# Altium integrated library Altium_WCAP-CSGP (rev22a).IntLib: 953 symbols (part 1 of 17)
Pins are listed as number, name and electrical type; pins without a type are passive.

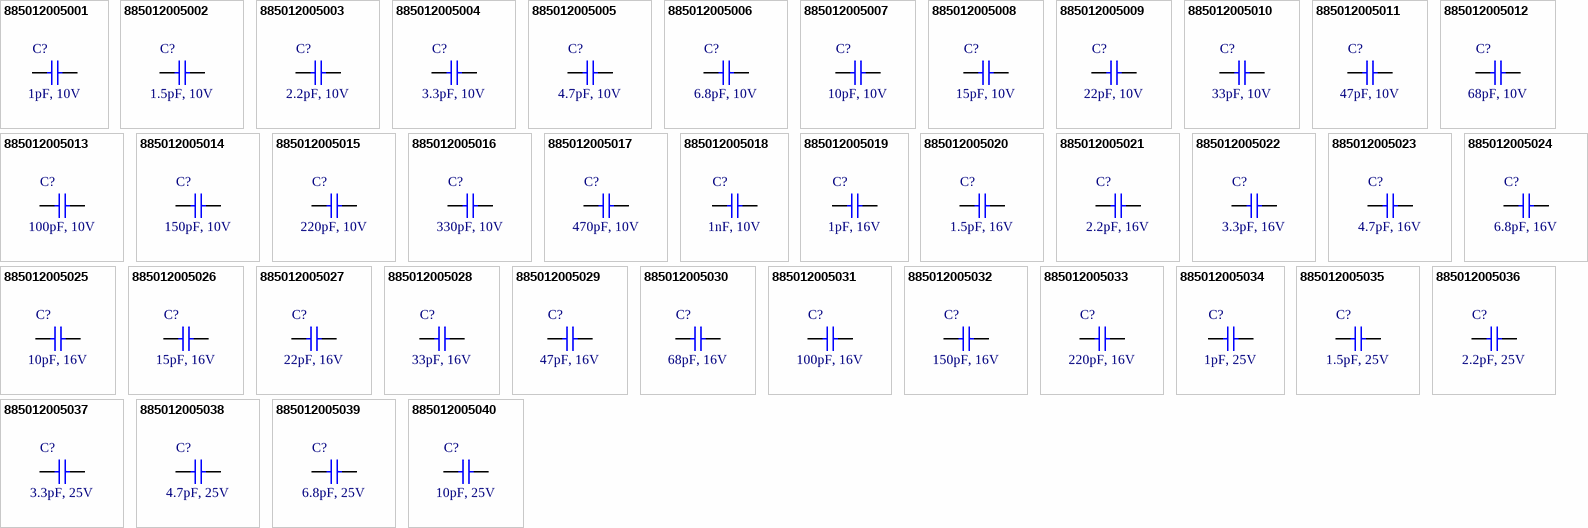
[diagram p0: symbols 885012005001 to 885012005040]

## 885012005001
designator C?, comment 1pF, 10V
WCAP-CSGP Multilayer Ceramic Chip Capacitor, General Purpose, size 0402, NP0, 1pF, 10V; Manufacturer: Wurth Elektronik; Manufacturer Part Number: 885012005001; Capacitance Tolerance: +/-0.5pF; Isolation Resistance: 10GOhm; Q-Factor: 420; Technical Reference: NP004021R0D010DFCT10000; Capacitance: 1pF; Ceramic Type: NP0; ComponentLink1Description: Manufacturer Link; ComponentLink1URL: http://www.we-online.de; ComponentLink2Description: Datasheet; ComponentLink2URL: https://www.we-online.com/catalog/datasheet/885012005001.pdf; Height: 0.5mm; Length: 1mm; Mounting Technology: SMT; Operating Temperature max.: 125C; Operating Temperature min.: -55C; Packaging: Tape and Reel; Rated Voltage: 10V; Size: 0402; Width: 0.5mm
footprint WCAP-CSGP_0402_L1W0.5H0.5
pins: 1, 2

## 885012005002
designator C?, comment 1.5pF, 10V
WCAP-CSGP Multilayer Ceramic Chip Capacitor, General Purpose, size 0402, NP0, 1.5pF, 10V; Manufacturer: Wurth Elektronik; Manufacturer Part Number: 885012005002; Capacitance Tolerance: +/-0.5pF; Isolation Resistance: 10GOhm; Q-Factor: 430; Technical Reference: NP004021R5D010DFCT10000; Capacitance: 1.5pF; Ceramic Type: NP0; ComponentLink1Description: Manufacturer Link; ComponentLink1URL: http://www.we-online.de; ComponentLink2Description: Datasheet; ComponentLink2URL: https://www.we-online.com/catalog/datasheet/885012005002.pdf; Height: 0.5mm; Length: 1mm; Mounting Technology: SMT; Operating Temperature max.: 125C; Operating Temperature min.: -55C; Packaging: Tape and Reel; Rated Voltage: 10V; Size: 0402; Width: 0.5mm
footprint WCAP-CSGP_0402_L1W0.5H0.5
pins: 1, 2

## 885012005003
designator C?, comment 2.2pF, 10V
WCAP-CSGP Multilayer Ceramic Chip Capacitor, General Purpose, size 0402, NP0, 2.2pF, 10V; Manufacturer: Wurth Elektronik; Manufacturer Part Number: 885012005003; Capacitance Tolerance: +/-0.5pF; Isolation Resistance: 10GOhm; Q-Factor: 444; Technical Reference: NP004022R2D010DFCT10000; Capacitance: 2.2pF; Ceramic Type: NP0; ComponentLink1Description: Manufacturer Link; ComponentLink1URL: http://www.we-online.de; ComponentLink2Description: Datasheet; ComponentLink2URL: https://www.we-online.com/catalog/datasheet/885012005003.pdf; Height: 0.5mm; Length: 1mm; Mounting Technology: SMT; Operating Temperature max.: 125C; Operating Temperature min.: -55C; Packaging: Tape and Reel; Rated Voltage: 10V; Size: 0402; Width: 0.5mm
footprint WCAP-CSGP_0402_L1W0.5H0.5
pins: 1, 2

## 885012005004
designator C?, comment 3.3pF, 10V
WCAP-CSGP Multilayer Ceramic Chip Capacitor, General Purpose, size 0402, NP0, 3.3pF, 10V; Manufacturer: Wurth Elektronik; Manufacturer Part Number: 885012005004; Capacitance Tolerance: +/-0.5pF; Isolation Resistance: 10GOhm; Q-Factor: 466; Technical Reference: NP004023R3D010DFCT10000; Capacitance: 3.3pF; Ceramic Type: NP0; ComponentLink1Description: Manufacturer Link; ComponentLink1URL: http://www.we-online.de; ComponentLink2Description: Datasheet; ComponentLink2URL: https://www.we-online.com/catalog/datasheet/885012005004.pdf; Height: 0.5mm; Length: 1mm; Mounting Technology: SMT; Operating Temperature max.: 125C; Operating Temperature min.: -55C; Packaging: Tape and Reel; Rated Voltage: 10V; Size: 0402; Width: 0.5mm
footprint WCAP-CSGP_0402_L1W0.5H0.5
pins: 1, 2

## 885012005005
designator C?, comment 4.7pF, 10V
WCAP-CSGP Multilayer Ceramic Chip Capacitor, General Purpose, size 0402, NP0, 4.7pF, 10V; Manufacturer: Wurth Elektronik; Manufacturer Part Number: 885012005005; Capacitance Tolerance: +/-0.5pF; Isolation Resistance: 10GOhm; Q-Factor: 494; Technical Reference: NP004024R7D010DFCT10000; Capacitance: 4.7pF; Ceramic Type: NP0; ComponentLink1Description: Manufacturer Link; ComponentLink1URL: http://www.we-online.de; ComponentLink2Description: Datasheet; ComponentLink2URL: https://www.we-online.com/catalog/datasheet/885012005005.pdf; Height: 0.5mm; Length: 1mm; Mounting Technology: SMT; Operating Temperature max.: 125C; Operating Temperature min.: -55C; Packaging: Tape and Reel; Rated Voltage: 10V; Size: 0402; Width: 0.5mm
footprint WCAP-CSGP_0402_L1W0.5H0.5
pins: 1, 2

## 885012005006
designator C?, comment 6.8pF, 10V
WCAP-CSGP Multilayer Ceramic Chip Capacitor, General Purpose, size 0402, NP0, 6.8pF, 10V; Manufacturer: Wurth Elektronik; Manufacturer Part Number: 885012005006; Capacitance Tolerance: +/-0.5pF; Isolation Resistance: 10GOhm; Q-Factor: 536; Technical Reference: NP004026R8D010DFCT10000; Capacitance: 6.8pF; Ceramic Type: NP0; ComponentLink1Description: Manufacturer Link; ComponentLink1URL: http://www.we-online.de; ComponentLink2Description: Datasheet; ComponentLink2URL: https://www.we-online.com/catalog/datasheet/885012005006.pdf; Height: 0.5mm; Length: 1mm; Mounting Technology: SMT; Operating Temperature max.: 125C; Operating Temperature min.: -55C; Packaging: Tape and Reel; Rated Voltage: 10V; Size: 0402; Width: 0.5mm
footprint WCAP-CSGP_0402_L1W0.5H0.5
pins: 1, 2

## 885012005007
designator C?, comment 10pF, 10V
WCAP-CSGP Multilayer Ceramic Chip Capacitor, General Purpose, size 0402, NP0, 10pF, 10V; Manufacturer: Wurth Elektronik; Manufacturer Part Number: 885012005007; Capacitance Tolerance: +/-5%; Isolation Resistance: 10GOhm; Q-Factor: 600; Technical Reference: NP00402100J010DFCT10000; Capacitance: 10pF; Ceramic Type: NP0; ComponentLink1Description: Manufacturer Link; ComponentLink1URL: http://www.we-online.de; ComponentLink2Description: Datasheet; ComponentLink2URL: https://www.we-online.com/catalog/datasheet/885012005007.pdf; Height: 0.5mm; Length: 1mm; Mounting Technology: SMT; Operating Temperature max.: 125C; Operating Temperature min.: -55C; Packaging: Tape and Reel; Rated Voltage: 10V; Size: 0402; Width: 0.5mm
footprint WCAP-CSGP_0402_L1W0.5H0.5
pins: 1, 2

## 885012005008
designator C?, comment 15pF, 10V
WCAP-CSGP Multilayer Ceramic Chip Capacitor, General Purpose, size 0402, NP0, 15pF, 10V; Manufacturer: Wurth Elektronik; Manufacturer Part Number: 885012005008; Capacitance Tolerance: +/-5%; Isolation Resistance: 10GOhm; Q-Factor: 700; Technical Reference: NP00402150J010DFCT10000; Capacitance: 15pF; Ceramic Type: NP0; ComponentLink1Description: Manufacturer Link; ComponentLink1URL: http://www.we-online.de; ComponentLink2Description: Datasheet; ComponentLink2URL: https://www.we-online.com/catalog/datasheet/885012005008.pdf; Height: 0.5mm; Length: 1mm; Mounting Technology: SMT; Operating Temperature max.: 125C; Operating Temperature min.: -55C; Packaging: Tape and Reel; Rated Voltage: 10V; Size: 0402; Width: 0.5mm
footprint WCAP-CSGP_0402_L1W0.5H0.5
pins: 1, 2

## 885012005009
designator C?, comment 22pF, 10V
WCAP-CSGP Multilayer Ceramic Chip Capacitor, General Purpose, size 0402, NP0, 22pF, 10V; Manufacturer: Wurth Elektronik; Manufacturer Part Number: 885012005009; Capacitance Tolerance: +/-5%; Isolation Resistance: 10GOhm; Q-Factor: 840; Technical Reference: NP00402220J010DFCT10000; Capacitance: 22pF; Ceramic Type: NP0; ComponentLink1Description: Manufacturer Link; ComponentLink1URL: http://www.we-online.de; ComponentLink2Description: Datasheet; ComponentLink2URL: https://www.we-online.com/catalog/datasheet/885012005009.pdf; Height: 0.5mm; Length: 1mm; Mounting Technology: SMT; Operating Temperature max.: 125C; Operating Temperature min.: -55C; Packaging: Tape and Reel; Rated Voltage: 10V; Size: 0402; Width: 0.5mm
footprint WCAP-CSGP_0402_L1W0.5H0.5
pins: 1, 2

## 885012005010
designator C?, comment 33pF, 10V
WCAP-CSGP Multilayer Ceramic Chip Capacitor, General Purpose, size 0402, NP0, 33pF, 10V; Manufacturer: Wurth Elektronik; Manufacturer Part Number: 885012005010; Capacitance Tolerance: +/-5%; Isolation Resistance: 10GOhm; Q-Factor: 1000; Technical Reference: NP00402330J010DFCT10000; Capacitance: 33pF; Ceramic Type: NP0; ComponentLink1Description: Manufacturer Link; ComponentLink1URL: http://www.we-online.de; ComponentLink2Description: Datasheet; ComponentLink2URL: https://www.we-online.com/catalog/datasheet/885012005010.pdf; Height: 0.5mm; Length: 1mm; Mounting Technology: SMT; Operating Temperature max.: 125C; Operating Temperature min.: -55C; Packaging: Tape and Reel; Rated Voltage: 10V; Size: 0402; Width: 0.5mm
footprint WCAP-CSGP_0402_L1W0.5H0.5
pins: 1, 2

## 885012005011
designator C?, comment 47pF, 10V
WCAP-CSGP Multilayer Ceramic Chip Capacitor, General Purpose, size 0402, NP0, 47pF, 10V; Manufacturer: Wurth Elektronik; Manufacturer Part Number: 885012005011; Capacitance Tolerance: +/-5%; Isolation Resistance: 10GOhm; Q-Factor: 1000; Technical Reference: NP00402470J010DFCT10000; Capacitance: 47pF; Ceramic Type: NP0; ComponentLink1Description: Manufacturer Link; ComponentLink1URL: http://www.we-online.de; ComponentLink2Description: Datasheet; ComponentLink2URL: https://www.we-online.com/catalog/datasheet/885012005011.pdf; Height: 0.5mm; Length: 1mm; Mounting Technology: SMT; Operating Temperature max.: 125C; Operating Temperature min.: -55C; Packaging: Tape and Reel; Rated Voltage: 10V; Size: 0402; Width: 0.5mm
footprint WCAP-CSGP_0402_L1W0.5H0.5
pins: 1, 2

## 885012005012
designator C?, comment 68pF, 10V
WCAP-CSGP Multilayer Ceramic Chip Capacitor, General Purpose, size 0402, NP0, 68pF, 10V; Manufacturer: Wurth Elektronik; Manufacturer Part Number: 885012005012; Capacitance Tolerance: +/-5%; Isolation Resistance: 10GOhm; Q-Factor: 1000; Technical Reference: NP00402680J010DFCT10000; Capacitance: 68pF; Ceramic Type: NP0; ComponentLink1Description: Manufacturer Link; ComponentLink1URL: http://www.we-online.de; ComponentLink2Description: Datasheet; ComponentLink2URL: https://www.we-online.com/catalog/datasheet/885012005012.pdf; Height: 0.5mm; Length: 1mm; Mounting Technology: SMT; Operating Temperature max.: 125C; Operating Temperature min.: -55C; Packaging: Tape and Reel; Rated Voltage: 10V; Size: 0402; Width: 0.5mm
footprint WCAP-CSGP_0402_L1W0.5H0.5
pins: 1, 2

## 885012005013
designator C?, comment 100pF, 10V
WCAP-CSGP Multilayer Ceramic Chip Capacitor, General Purpose, size 0402, NP0, 100pF, 10V; Manufacturer: Wurth Elektronik; Manufacturer Part Number: 885012005013; Capacitance Tolerance: +/-5%; Isolation Resistance: 10GOhm; Q-Factor: 1000; Technical Reference: NP00402101J010DFCT10000; Capacitance: 100pF; Ceramic Type: NP0; ComponentLink1Description: Manufacturer Link; ComponentLink1URL: http://www.we-online.de; ComponentLink2Description: Datasheet; ComponentLink2URL: https://www.we-online.com/catalog/datasheet/885012005013.pdf; Height: 0.5mm; Length: 1mm; Mounting Technology: SMT; Operating Temperature max.: 125C; Operating Temperature min.: -55C; Packaging: Tape and Reel; Rated Voltage: 10V; Size: 0402; Width: 0.5mm
footprint WCAP-CSGP_0402_L1W0.5H0.5
pins: 1, 2

## 885012005014
designator C?, comment 150pF, 10V
WCAP-CSGP Multilayer Ceramic Chip Capacitor, General Purpose, size 0402, NP0, 150pF, 10V; Manufacturer: Wurth Elektronik; Manufacturer Part Number: 885012005014; Capacitance Tolerance: +/-5%; Isolation Resistance: 10GOhm; Q-Factor: 1000; Technical Reference: NP00402151J010DFCT10000; Capacitance: 150pF; Ceramic Type: NP0; ComponentLink1Description: Manufacturer Link; ComponentLink1URL: http://www.we-online.de; ComponentLink2Description: Datasheet; ComponentLink2URL: https://www.we-online.com/catalog/datasheet/885012005014.pdf; Height: 0.5mm; Length: 1mm; Mounting Technology: SMT; Operating Temperature max.: 125C; Operating Temperature min.: -55C; Packaging: Tape and Reel; Rated Voltage: 10V; Size: 0402; Width: 0.5mm
footprint WCAP-CSGP_0402_L1W0.5H0.5
pins: 1, 2

## 885012005015
designator C?, comment 220pF, 10V
WCAP-CSGP Multilayer Ceramic Chip Capacitor, General Purpose, size 0402, NP0, 220pF, 10V; Manufacturer: Wurth Elektronik; Manufacturer Part Number: 885012005015; Capacitance Tolerance: +/-5%; Isolation Resistance: 10GOhm; Q-Factor: 1000; Technical Reference: NP00402221J010DFCT10000; Capacitance: 220pF; Ceramic Type: NP0; ComponentLink1Description: Manufacturer Link; ComponentLink1URL: http://www.we-online.de; ComponentLink2Description: Datasheet; ComponentLink2URL: https://www.we-online.com/catalog/datasheet/885012005015.pdf; Height: 0.5mm; Length: 1mm; Mounting Technology: SMT; Operating Temperature max.: 125C; Operating Temperature min.: -55C; Packaging: Tape and Reel; Rated Voltage: 10V; Size: 0402; Width: 0.5mm
footprint WCAP-CSGP_0402_L1W0.5H0.5
pins: 1, 2

## 885012005016
designator C?, comment 330pF, 10V
WCAP-CSGP Multilayer Ceramic Chip Capacitor, General Purpose, size 0402, NP0, 330pF, 10V; Manufacturer: Wurth Elektronik; Manufacturer Part Number: 885012005016; Capacitance Tolerance: +/-5%; Isolation Resistance: 10GOhm; Q-Factor: 1000; Technical Reference: NP00402331J010DFCT10000; Capacitance: 330pF; Ceramic Type: NP0; ComponentLink1Description: Manufacturer Link; ComponentLink1URL: http://www.we-online.de; ComponentLink2Description: Datasheet; ComponentLink2URL: https://www.we-online.com/catalog/datasheet/885012005016.pdf; Height: 0.5mm; Length: 1mm; Mounting Technology: SMT; Operating Temperature max.: 125C; Operating Temperature min.: -55C; Packaging: Tape and Reel; Rated Voltage: 10V; Size: 0402; Width: 0.5mm
footprint WCAP-CSGP_0402_L1W0.5H0.5
pins: 1, 2

## 885012005017
designator C?, comment 470pF, 10V
WCAP-CSGP Multilayer Ceramic Chip Capacitor, General Purpose, size 0402, NP0, 470pF, 10V; Manufacturer: Wurth Elektronik; Manufacturer Part Number: 885012005017; Capacitance Tolerance: +/-5%; Isolation Resistance: 10GOhm; Q-Factor: 1000; Technical Reference: NP00402471J010DFCT10000; Capacitance: 470pF; Ceramic Type: NP0; ComponentLink1Description: Manufacturer Link; ComponentLink1URL: http://www.we-online.de; ComponentLink2Description: Datasheet; ComponentLink2URL: https://www.we-online.com/catalog/datasheet/885012005017.pdf; Height: 0.5mm; Length: 1mm; Mounting Technology: SMT; Operating Temperature max.: 125C; Operating Temperature min.: -55C; Packaging: Tape and Reel; Rated Voltage: 10V; Size: 0402; Width: 0.5mm
footprint WCAP-CSGP_0402_L1W0.5H0.5
pins: 1, 2

## 885012005018
designator C?, comment 1nF, 10V
WCAP-CSGP Multilayer Ceramic Chip Capacitor, General Purpose, size 0402, NP0, 1nF, 10V; Manufacturer: Wurth Elektronik; Manufacturer Part Number: 885012005018; Capacitance Tolerance: +/-5%; Isolation Resistance: 10GOhm; Q-Factor: 1000; Technical Reference: NP00402102J010DFCT10000; Capacitance: 1nF; Ceramic Type: NP0; ComponentLink1Description: Manufacturer Link; ComponentLink1URL: http://www.we-online.de; ComponentLink2Description: Datasheet; ComponentLink2URL: https://www.we-online.com/catalog/datasheet/885012005018.pdf; Height: 0.5mm; Length: 1mm; Mounting Technology: SMT; Operating Temperature max.: 125C; Operating Temperature min.: -55C; Packaging: Tape and Reel; Rated Voltage: 10V; Size: 0402; Width: 0.5mm
footprint WCAP-CSGP_0402_L1W0.5H0.5
pins: 1, 2

## 885012005019
designator C?, comment 1pF, 16V
WCAP-CSGP Multilayer Ceramic Chip Capacitor, General Purpose, size 0402, NP0, 1pF, 16V; Manufacturer: Wurth Elektronik; Manufacturer Part Number: 885012005019; Capacitance Tolerance: +/-0.5pF; Isolation Resistance: 10GOhm; Q-Factor: 420; Technical Reference: NP004021R0D016DFCT10000; Capacitance: 1pF; Ceramic Type: NP0; ComponentLink1Description: Manufacturer Link; ComponentLink1URL: http://www.we-online.de; ComponentLink2Description: Datasheet; ComponentLink2URL: https://www.we-online.com/catalog/datasheet/885012005019.pdf; Height: 0.5mm; Length: 1mm; Mounting Technology: SMT; Operating Temperature max.: 125C; Operating Temperature min.: -55C; Packaging: Tape and Reel; Rated Voltage: 16V; Size: 0402; Width: 0.5mm
footprint WCAP-CSGP_0402_L1W0.5H0.5
pins: 1, 2

## 885012005020
designator C?, comment 1.5pF, 16V
WCAP-CSGP Multilayer Ceramic Chip Capacitor, General Purpose, size 0402, NP0, 1.5pF, 16V; Manufacturer: Wurth Elektronik; Manufacturer Part Number: 885012005020; Capacitance Tolerance: +/-0.5pF; Isolation Resistance: 10GOhm; Q-Factor: 430; Technical Reference: NP004021R5D016DFCT10000; Capacitance: 1.5pF; Ceramic Type: NP0; ComponentLink1Description: Manufacturer Link; ComponentLink1URL: http://www.we-online.de; ComponentLink2Description: Datasheet; ComponentLink2URL: https://www.we-online.com/catalog/datasheet/885012005020.pdf; Height: 0.5mm; Length: 1mm; Mounting Technology: SMT; Operating Temperature max.: 125C; Operating Temperature min.: -55C; Packaging: Tape and Reel; Rated Voltage: 16V; Size: 0402; Width: 0.5mm
footprint WCAP-CSGP_0402_L1W0.5H0.5
pins: 1, 2

## 885012005021
designator C?, comment 2.2pF, 16V
WCAP-CSGP Multilayer Ceramic Chip Capacitor, General Purpose, size 0402, NP0, 2.2pF, 16V; Manufacturer: Wurth Elektronik; Manufacturer Part Number: 885012005021; Capacitance Tolerance: +/-0.5pF; Isolation Resistance: 10GOhm; Q-Factor: 444; Technical Reference: NP004022R2D016DFCT10000; Capacitance: 2.2pF; Ceramic Type: NP0; ComponentLink1Description: Manufacturer Link; ComponentLink1URL: http://www.we-online.de; ComponentLink2Description: Datasheet; ComponentLink2URL: https://www.we-online.com/catalog/datasheet/885012005021.pdf; Height: 0.5mm; Length: 1mm; Mounting Technology: SMT; Operating Temperature max.: 125C; Operating Temperature min.: -55C; Packaging: Tape and Reel; Rated Voltage: 16V; Size: 0402; Width: 0.5mm
footprint WCAP-CSGP_0402_L1W0.5H0.5
pins: 1, 2

## 885012005022
designator C?, comment 3.3pF, 16V
WCAP-CSGP Multilayer Ceramic Chip Capacitor, General Purpose, size 0402, NP0, 3.3pF, 16V; Manufacturer: Wurth Elektronik; Manufacturer Part Number: 885012005022; Capacitance Tolerance: +/-0.5pF; Isolation Resistance: 10GOhm; Q-Factor: 466; Technical Reference: NP004023R3D016DFCT10000; Capacitance: 3.3pF; Ceramic Type: NP0; ComponentLink1Description: Manufacturer Link; ComponentLink1URL: http://www.we-online.de; ComponentLink2Description: Datasheet; ComponentLink2URL: https://www.we-online.com/catalog/datasheet/885012005022.pdf; Height: 0.5mm; Length: 1mm; Mounting Technology: SMT; Operating Temperature max.: 125C; Operating Temperature min.: -55C; Packaging: Tape and Reel; Rated Voltage: 16V; Size: 0402; Width: 0.5mm
footprint WCAP-CSGP_0402_L1W0.5H0.5
pins: 1, 2

## 885012005023
designator C?, comment 4.7pF, 16V
WCAP-CSGP Multilayer Ceramic Chip Capacitor, General Purpose, size 0402, NP0, 4.7pF, 16V; Manufacturer: Wurth Elektronik; Manufacturer Part Number: 885012005023; Capacitance Tolerance: +/-0.5pF; Isolation Resistance: 10GOhm; Q-Factor: 494; Technical Reference: NP004024R7D016DFCT10000; Capacitance: 4.7pF; Ceramic Type: NP0; ComponentLink1Description: Manufacturer Link; ComponentLink1URL: http://www.we-online.de; ComponentLink2Description: Datasheet; ComponentLink2URL: https://www.we-online.com/catalog/datasheet/885012005023.pdf; Height: 0.5mm; Length: 1mm; Mounting Technology: SMT; Operating Temperature max.: 125C; Operating Temperature min.: -55C; Packaging: Tape and Reel; Rated Voltage: 16V; Size: 0402; Width: 0.5mm
footprint WCAP-CSGP_0402_L1W0.5H0.5
pins: 1, 2

## 885012005024
designator C?, comment 6.8pF, 16V
WCAP-CSGP Multilayer Ceramic Chip Capacitor, General Purpose, size 0402, NP0, 6.8pF, 16V; Manufacturer: Wurth Elektronik; Manufacturer Part Number: 885012005024; Capacitance Tolerance: +/-0.5pF; Isolation Resistance: 10GOhm; Q-Factor: 536; Technical Reference: NP004026R8D016DFCT10000; Capacitance: 6.8pF; Ceramic Type: NP0; ComponentLink1Description: Manufacturer Link; ComponentLink1URL: http://www.we-online.de; ComponentLink2Description: Datasheet; ComponentLink2URL: https://www.we-online.com/catalog/datasheet/885012005024.pdf; Height: 0.5mm; Length: 1mm; Mounting Technology: SMT; Operating Temperature max.: 125C; Operating Temperature min.: -55C; Packaging: Tape and Reel; Rated Voltage: 16V; Size: 0402; Width: 0.5mm
footprint WCAP-CSGP_0402_L1W0.5H0.5
pins: 1, 2

## 885012005025
designator C?, comment 10pF, 16V
WCAP-CSGP Multilayer Ceramic Chip Capacitor, General Purpose, size 0402, NP0, 10pF, 16V; Manufacturer: Wurth Elektronik; Manufacturer Part Number: 885012005025; Capacitance Tolerance: +/-5%; Isolation Resistance: 10GOhm; Q-Factor: 600; Technical Reference: NP00402100J016DFCT10000; Capacitance: 10pF; Ceramic Type: NP0; ComponentLink1Description: Manufacturer Link; ComponentLink1URL: http://www.we-online.de; ComponentLink2Description: Datasheet; ComponentLink2URL: https://www.we-online.com/catalog/datasheet/885012005025.pdf; Height: 0.5mm; Length: 1mm; Mounting Technology: SMT; Operating Temperature max.: 125C; Operating Temperature min.: -55C; Packaging: Tape and Reel; Rated Voltage: 16V; Size: 0402; Width: 0.5mm
footprint WCAP-CSGP_0402_L1W0.5H0.5
pins: 1, 2

## 885012005026
designator C?, comment 15pF, 16V
WCAP-CSGP Multilayer Ceramic Chip Capacitor, General Purpose, size 0402, NP0, 15pF, 16V; Manufacturer: Wurth Elektronik; Manufacturer Part Number: 885012005026; Capacitance Tolerance: +/-5%; Isolation Resistance: 10GOhm; Q-Factor: 700; Technical Reference: NP00402150J016DFCT10000; Capacitance: 15pF; Ceramic Type: NP0; ComponentLink1Description: Manufacturer Link; ComponentLink1URL: http://www.we-online.de; ComponentLink2Description: Datasheet; ComponentLink2URL: https://www.we-online.com/catalog/datasheet/885012005026.pdf; Height: 0.5mm; Length: 1mm; Mounting Technology: SMT; Operating Temperature max.: 125C; Operating Temperature min.: -55C; Packaging: Tape and Reel; Rated Voltage: 16V; Size: 0402; Width: 0.5mm
footprint WCAP-CSGP_0402_L1W0.5H0.5
pins: 1, 2

## 885012005027
designator C?, comment 22pF, 16V
WCAP-CSGP Multilayer Ceramic Chip Capacitor, General Purpose, size 0402, NP0, 22pF, 16V; Manufacturer: Wurth Elektronik; Manufacturer Part Number: 885012005027; Capacitance Tolerance: +/-5%; Isolation Resistance: 10GOhm; Q-Factor: 840; Technical Reference: NP00402220J016DFCT10000; Capacitance: 22pF; Ceramic Type: NP0; ComponentLink1Description: Manufacturer Link; ComponentLink1URL: http://www.we-online.de; ComponentLink2Description: Datasheet; ComponentLink2URL: https://www.we-online.com/catalog/datasheet/885012005027.pdf; Height: 0.5mm; Length: 1mm; Mounting Technology: SMT; Operating Temperature max.: 125C; Operating Temperature min.: -55C; Packaging: Tape and Reel; Rated Voltage: 16V; Size: 0402; Width: 0.5mm
footprint WCAP-CSGP_0402_L1W0.5H0.5
pins: 1, 2

## 885012005028
designator C?, comment 33pF, 16V
WCAP-CSGP Multilayer Ceramic Chip Capacitor, General Purpose, size 0402, NP0, 33pF, 16V; Manufacturer: Wurth Elektronik; Manufacturer Part Number: 885012005028; Capacitance Tolerance: +/-5%; Isolation Resistance: 10GOhm; Q-Factor: 1000; Technical Reference: NP00402330J016DFCT10000; Capacitance: 33pF; Ceramic Type: NP0; ComponentLink1Description: Manufacturer Link; ComponentLink1URL: http://www.we-online.de; ComponentLink2Description: Datasheet; ComponentLink2URL: https://www.we-online.com/catalog/datasheet/885012005028.pdf; Height: 0.5mm; Length: 1mm; Mounting Technology: SMT; Operating Temperature max.: 125C; Operating Temperature min.: -55C; Packaging: Tape and Reel; Rated Voltage: 16V; Size: 0402; Width: 0.5mm
footprint WCAP-CSGP_0402_L1W0.5H0.5
pins: 1, 2

## 885012005029
designator C?, comment 47pF, 16V
WCAP-CSGP Multilayer Ceramic Chip Capacitor, General Purpose, size 0402, NP0, 47pF, 16V; Manufacturer: Wurth Elektronik; Manufacturer Part Number: 885012005029; Capacitance Tolerance: +/-5%; Isolation Resistance: 10GOhm; Q-Factor: 1000; Technical Reference: NP00402470J016DFCT10000; Capacitance: 47pF; Ceramic Type: NP0; ComponentLink1Description: Manufacturer Link; ComponentLink1URL: http://www.we-online.de; ComponentLink2Description: Datasheet; ComponentLink2URL: https://www.we-online.com/catalog/datasheet/885012005029.pdf; Height: 0.5mm; Length: 1mm; Mounting Technology: SMT; Operating Temperature max.: 125C; Operating Temperature min.: -55C; Packaging: Tape and Reel; Rated Voltage: 16V; Size: 0402; Width: 0.5mm
footprint WCAP-CSGP_0402_L1W0.5H0.5
pins: 1, 2

## 885012005030
designator C?, comment 68pF, 16V
WCAP-CSGP Multilayer Ceramic Chip Capacitor, General Purpose, size 0402, NP0, 68pF, 16V; Manufacturer: Wurth Elektronik; Manufacturer Part Number: 885012005030; Capacitance Tolerance: +/-5%; Isolation Resistance: 10GOhm; Q-Factor: 1000; Technical Reference: NP00402680J016DFCT10000; Capacitance: 68pF; Ceramic Type: NP0; ComponentLink1Description: Manufacturer Link; ComponentLink1URL: http://www.we-online.de; ComponentLink2Description: Datasheet; ComponentLink2URL: https://www.we-online.com/catalog/datasheet/885012005030.pdf; Height: 0.5mm; Length: 1mm; Mounting Technology: SMT; Operating Temperature max.: 125C; Operating Temperature min.: -55C; Packaging: Tape and Reel; Rated Voltage: 16V; Size: 0402; Width: 0.5mm
footprint WCAP-CSGP_0402_L1W0.5H0.5
pins: 1, 2

## 885012005031
designator C?, comment 100pF, 16V
WCAP-CSGP Multilayer Ceramic Chip Capacitor, General Purpose, size 0402, NP0, 100pF, 16V; Manufacturer: Wurth Elektronik; Manufacturer Part Number: 885012005031; Capacitance Tolerance: +/-5%; Isolation Resistance: 10GOhm; Q-Factor: 1000; Technical Reference: NP00402101J016DFCT10000; Capacitance: 100pF; Ceramic Type: NP0; ComponentLink1Description: Manufacturer Link; ComponentLink1URL: http://www.we-online.de; ComponentLink2Description: Datasheet; ComponentLink2URL: https://www.we-online.com/catalog/datasheet/885012005031.pdf; Height: 0.5mm; Length: 1mm; Mounting Technology: SMT; Operating Temperature max.: 125C; Operating Temperature min.: -55C; Packaging: Tape and Reel; Rated Voltage: 16V; Size: 0402; Width: 0.5mm
footprint WCAP-CSGP_0402_L1W0.5H0.5
pins: 1, 2

## 885012005032
designator C?, comment 150pF, 16V
WCAP-CSGP Multilayer Ceramic Chip Capacitor, General Purpose, size 0402, NP0, 150pF, 16V; Manufacturer: Wurth Elektronik; Manufacturer Part Number: 885012005032; Capacitance Tolerance: +/-5%; Isolation Resistance: 10GOhm; Q-Factor: 1000; Technical Reference: NP00402151J016DFCT10000; Capacitance: 150pF; Ceramic Type: NP0; ComponentLink1Description: Manufacturer Link; ComponentLink1URL: http://www.we-online.de; ComponentLink2Description: Datasheet; ComponentLink2URL: https://www.we-online.com/catalog/datasheet/885012005032.pdf; Height: 0.5mm; Length: 1mm; Mounting Technology: SMT; Operating Temperature max.: 125C; Operating Temperature min.: -55C; Packaging: Tape and Reel; Rated Voltage: 16V; Size: 0402; Width: 0.5mm
footprint WCAP-CSGP_0402_L1W0.5H0.5
pins: 1, 2

## 885012005033
designator C?, comment 220pF, 16V
WCAP-CSGP Multilayer Ceramic Chip Capacitor, General Purpose, size 0402, NP0, 220pF, 16V; Manufacturer: Wurth Elektronik; Manufacturer Part Number: 885012005033; Capacitance Tolerance: +/-5%; Isolation Resistance: 10GOhm; Q-Factor: 1000; Technical Reference: NP00402221J016DFCT10000; Capacitance: 220pF; Ceramic Type: NP0; ComponentLink1Description: Manufacturer Link; ComponentLink1URL: http://www.we-online.de; ComponentLink2Description: Datasheet; ComponentLink2URL: https://www.we-online.com/catalog/datasheet/885012005033.pdf; Height: 0.5mm; Length: 1mm; Mounting Technology: SMT; Operating Temperature max.: 125C; Operating Temperature min.: -55C; Packaging: Tape and Reel; Rated Voltage: 16V; Size: 0402; Width: 0.5mm
footprint WCAP-CSGP_0402_L1W0.5H0.5
pins: 1, 2

## 885012005034
designator C?, comment 1pF, 25V
WCAP-CSGP Multilayer Ceramic Chip Capacitor, General Purpose, size 0402, NP0, 1pF, 25V; Manufacturer: Wurth Elektronik; Manufacturer Part Number: 885012005034; Capacitance Tolerance: +/-0.5pF; Isolation Resistance: 10GOhm; Q-Factor: 420; Technical Reference: NP004021R0D025DFCT10000; Capacitance: 1pF; Ceramic Type: NP0; ComponentLink1Description: Manufacturer Link; ComponentLink1URL: http://www.we-online.de; ComponentLink2Description: Datasheet; ComponentLink2URL: https://www.we-online.com/catalog/datasheet/885012005034.pdf; Height: 0.5mm; Length: 1mm; Mounting Technology: SMT; Operating Temperature max.: 125C; Operating Temperature min.: -55C; Packaging: Tape and Reel; Rated Voltage: 25V; Size: 0402; Width: 0.5mm
footprint WCAP-CSGP_0402_L1W0.5H0.5
pins: 1, 2

## 885012005035
designator C?, comment 1.5pF, 25V
WCAP-CSGP Multilayer Ceramic Chip Capacitor, General Purpose, size 0402, NP0, 1.5pF, 25V; Manufacturer: Wurth Elektronik; Manufacturer Part Number: 885012005035; Capacitance Tolerance: +/-0.5pF; Isolation Resistance: 10GOhm; Q-Factor: 430; Technical Reference: NP004021R5D025DFCT10000; Capacitance: 1.5pF; Ceramic Type: NP0; ComponentLink1Description: Manufacturer Link; ComponentLink1URL: http://www.we-online.de; ComponentLink2Description: Datasheet; ComponentLink2URL: https://www.we-online.com/catalog/datasheet/885012005035.pdf; Height: 0.5mm; Length: 1mm; Mounting Technology: SMT; Operating Temperature max.: 125C; Operating Temperature min.: -55C; Packaging: Tape and Reel; Rated Voltage: 25V; Size: 0402; Width: 0.5mm
footprint WCAP-CSGP_0402_L1W0.5H0.5
pins: 1, 2

## 885012005036
designator C?, comment 2.2pF, 25V
WCAP-CSGP Multilayer Ceramic Chip Capacitor, General Purpose, size 0402, NP0, 2.2pF, 25V; Manufacturer: Wurth Elektronik; Manufacturer Part Number: 885012005036; Capacitance Tolerance: +/-0.5pF; Isolation Resistance: 10GOhm; Q-Factor: 444; Technical Reference: NP004022R2D025DFCT10000; Capacitance: 2.2pF; Ceramic Type: NP0; ComponentLink1Description: Manufacturer Link; ComponentLink1URL: http://www.we-online.de; ComponentLink2Description: Datasheet; ComponentLink2URL: https://www.we-online.com/catalog/datasheet/885012005036.pdf; Height: 0.5mm; Length: 1mm; Mounting Technology: SMT; Operating Temperature max.: 125C; Operating Temperature min.: -55C; Packaging: Tape and Reel; Rated Voltage: 25V; Size: 0402; Width: 0.5mm
footprint WCAP-CSGP_0402_L1W0.5H0.5
pins: 1, 2

## 885012005037
designator C?, comment 3.3pF, 25V
WCAP-CSGP Multilayer Ceramic Chip Capacitor, General Purpose, size 0402, NP0, 3.3pF, 25V; Manufacturer: Wurth Elektronik; Manufacturer Part Number: 885012005037; Capacitance Tolerance: +/-0.5pF; Isolation Resistance: 10GOhm; Q-Factor: 466; Technical Reference: NP004023R3D025DFCT10000; Capacitance: 3.3pF; Ceramic Type: NP0; ComponentLink1Description: Manufacturer Link; ComponentLink1URL: http://www.we-online.de; ComponentLink2Description: Datasheet; ComponentLink2URL: https://www.we-online.com/catalog/datasheet/885012005037.pdf; Height: 0.5mm; Length: 1mm; Mounting Technology: SMT; Operating Temperature max.: 125C; Operating Temperature min.: -55C; Packaging: Tape and Reel; Rated Voltage: 25V; Size: 0402; Width: 0.5mm
footprint WCAP-CSGP_0402_L1W0.5H0.5
pins: 1, 2

## 885012005038
designator C?, comment 4.7pF, 25V
WCAP-CSGP Multilayer Ceramic Chip Capacitor, General Purpose, size 0402, NP0, 4.7pF, 25V; Manufacturer: Wurth Elektronik; Manufacturer Part Number: 885012005038; Capacitance Tolerance: +/-0.5pF; Isolation Resistance: 10GOhm; Q-Factor: 494; Technical Reference: NP004024R7D025DFCT10000; Capacitance: 4.7pF; Ceramic Type: NP0; ComponentLink1Description: Manufacturer Link; ComponentLink1URL: http://www.we-online.de; ComponentLink2Description: Datasheet; ComponentLink2URL: https://www.we-online.com/catalog/datasheet/885012005038.pdf; Height: 0.5mm; Length: 1mm; Mounting Technology: SMT; Operating Temperature max.: 125C; Operating Temperature min.: -55C; Packaging: Tape and Reel; Rated Voltage: 25V; Size: 0402; Width: 0.5mm
footprint WCAP-CSGP_0402_L1W0.5H0.5
pins: 1, 2

## 885012005039
designator C?, comment 6.8pF, 25V
WCAP-CSGP Multilayer Ceramic Chip Capacitor, General Purpose, size 0402, NP0, 6.8pF, 25V; Manufacturer: Wurth Elektronik; Manufacturer Part Number: 885012005039; Capacitance Tolerance: +/-0.5pF; Isolation Resistance: 10GOhm; Q-Factor: 536; Technical Reference: NP004026R8D025DFCT10000; Capacitance: 6.8pF; Ceramic Type: NP0; ComponentLink1Description: Manufacturer Link; ComponentLink1URL: http://www.we-online.de; ComponentLink2Description: Datasheet; ComponentLink2URL: https://www.we-online.com/catalog/datasheet/885012005039.pdf; Height: 0.5mm; Length: 1mm; Mounting Technology: SMT; Operating Temperature max.: 125C; Operating Temperature min.: -55C; Packaging: Tape and Reel; Rated Voltage: 25V; Size: 0402; Width: 0.5mm
footprint WCAP-CSGP_0402_L1W0.5H0.5
pins: 1, 2

## 885012005040
designator C?, comment 10pF, 25V
WCAP-CSGP Multilayer Ceramic Chip Capacitor, General Purpose, size 0402, NP0, 10pF, 25V; Manufacturer: Wurth Elektronik; Manufacturer Part Number: 885012005040; Capacitance Tolerance: +/-5%; Isolation Resistance: 10GOhm; Q-Factor: 600; Technical Reference: NP00402100J025DFCT10000; Capacitance: 10pF; Ceramic Type: NP0; ComponentLink1Description: Manufacturer Link; ComponentLink1URL: http://www.we-online.de; ComponentLink2Description: Datasheet; ComponentLink2URL: https://www.we-online.com/catalog/datasheet/885012005040.pdf; Height: 0.5mm; Length: 1mm; Mounting Technology: SMT; Operating Temperature max.: 125C; Operating Temperature min.: -55C; Packaging: Tape and Reel; Rated Voltage: 25V; Size: 0402; Width: 0.5mm
footprint WCAP-CSGP_0402_L1W0.5H0.5
pins: 1, 2

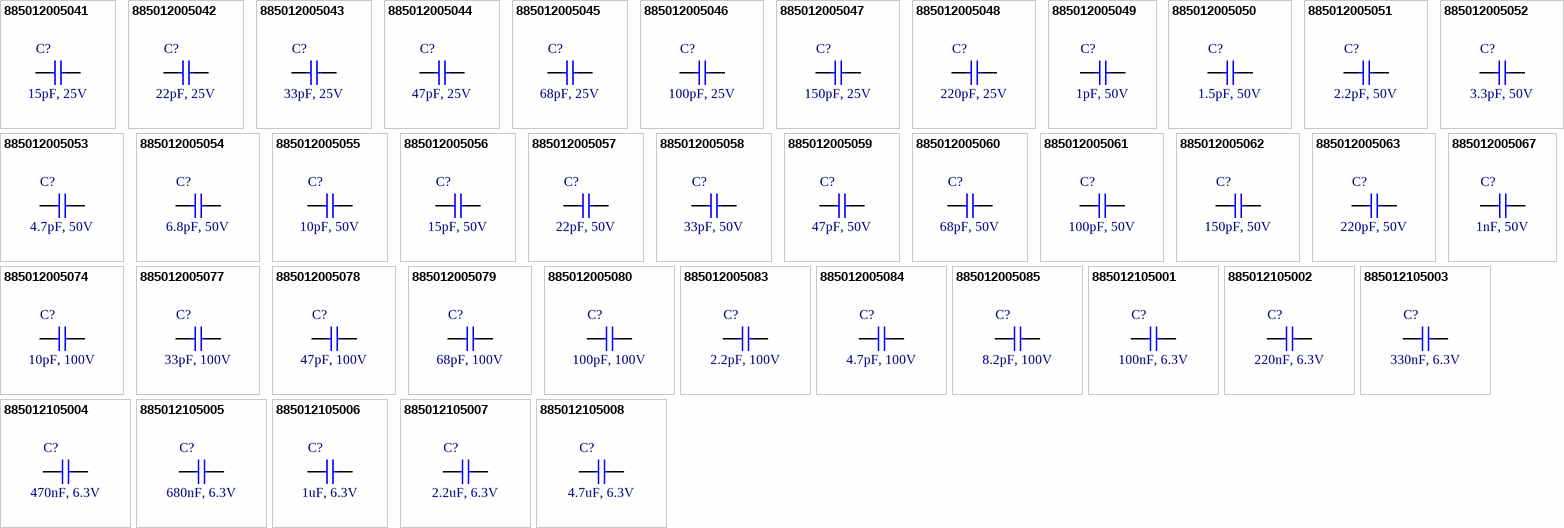
[diagram p1: symbols 885012005041 to 885012105008]

## 885012005041
designator C?, comment 15pF, 25V
WCAP-CSGP Multilayer Ceramic Chip Capacitor, General Purpose, size 0402, NP0, 15pF, 25V; Manufacturer: Wurth Elektronik; Manufacturer Part Number: 885012005041; Capacitance Tolerance: +/-5%; Isolation Resistance: 10GOhm; Q-Factor: 700; Technical Reference: NP00402150J025DFCT10000; Capacitance: 15pF; Ceramic Type: NP0; ComponentLink1Description: Manufacturer Link; ComponentLink1URL: http://www.we-online.de; ComponentLink2Description: Datasheet; ComponentLink2URL: https://www.we-online.com/catalog/datasheet/885012005041.pdf; Height: 0.5mm; Length: 1mm; Mounting Technology: SMT; Operating Temperature max.: 125C; Operating Temperature min.: -55C; Packaging: Tape and Reel; Rated Voltage: 25V; Size: 0402; Width: 0.5mm
footprint WCAP-CSGP_0402_L1W0.5H0.5
pins: 1, 2

## 885012005042
designator C?, comment 22pF, 25V
WCAP-CSGP Multilayer Ceramic Chip Capacitor, General Purpose, size 0402, NP0, 22pF, 25V; Manufacturer: Wurth Elektronik; Manufacturer Part Number: 885012005042; Capacitance Tolerance: +/-5%; Isolation Resistance: 10GOhm; Q-Factor: 840; Technical Reference: NP00402220J025DFCT10000; Capacitance: 22pF; Ceramic Type: NP0; ComponentLink1Description: Manufacturer Link; ComponentLink1URL: http://www.we-online.de; ComponentLink2Description: Datasheet; ComponentLink2URL: https://www.we-online.com/catalog/datasheet/885012005042.pdf; Height: 0.5mm; Length: 1mm; Mounting Technology: SMT; Operating Temperature max.: 125C; Operating Temperature min.: -55C; Packaging: Tape and Reel; Rated Voltage: 25V; Size: 0402; Width: 0.5mm
footprint WCAP-CSGP_0402_L1W0.5H0.5
pins: 1, 2

## 885012005043
designator C?, comment 33pF, 25V
WCAP-CSGP Multilayer Ceramic Chip Capacitor, General Purpose, size 0402, NP0, 33pF, 25V; Manufacturer: Wurth Elektronik; Manufacturer Part Number: 885012005043; Capacitance Tolerance: +/-5%; Isolation Resistance: 10GOhm; Q-Factor: 1000; Technical Reference: NP00402330J025DFCT10000; Capacitance: 33pF; Ceramic Type: NP0; ComponentLink1Description: Manufacturer Link; ComponentLink1URL: http://www.we-online.de; ComponentLink2Description: Datasheet; ComponentLink2URL: https://www.we-online.com/catalog/datasheet/885012005043.pdf; Height: 0.5mm; Length: 1mm; Mounting Technology: SMT; Operating Temperature max.: 125C; Operating Temperature min.: -55C; Packaging: Tape and Reel; Rated Voltage: 25V; Size: 0402; Width: 0.5mm
footprint WCAP-CSGP_0402_L1W0.5H0.5
pins: 1, 2

## 885012005044
designator C?, comment 47pF, 25V
WCAP-CSGP Multilayer Ceramic Chip Capacitor, General Purpose, size 0402, NP0, 47pF, 25V; Manufacturer: Wurth Elektronik; Manufacturer Part Number: 885012005044; Capacitance Tolerance: +/-5%; Isolation Resistance: 10GOhm; Q-Factor: 1000; Technical Reference: NP00402470J025DFCT10000; Capacitance: 47pF; Ceramic Type: NP0; ComponentLink1Description: Manufacturer Link; ComponentLink1URL: http://www.we-online.de; ComponentLink2Description: Datasheet; ComponentLink2URL: https://www.we-online.com/catalog/datasheet/885012005044.pdf; Height: 0.5mm; Length: 1mm; Mounting Technology: SMT; Operating Temperature max.: 125C; Operating Temperature min.: -55C; Packaging: Tape and Reel; Rated Voltage: 25V; Size: 0402; Width: 0.5mm
footprint WCAP-CSGP_0402_L1W0.5H0.5
pins: 1, 2

## 885012005045
designator C?, comment 68pF, 25V
WCAP-CSGP Multilayer Ceramic Chip Capacitor, General Purpose, size 0402, NP0, 68pF, 25V; Manufacturer: Wurth Elektronik; Manufacturer Part Number: 885012005045; Capacitance Tolerance: +/-5%; Isolation Resistance: 10GOhm; Q-Factor: 1000; Technical Reference: NP00402680J025DFCT10000; Capacitance: 68pF; Ceramic Type: NP0; ComponentLink1Description: Manufacturer Link; ComponentLink1URL: http://www.we-online.de; ComponentLink2Description: Datasheet; ComponentLink2URL: https://www.we-online.com/catalog/datasheet/885012005045.pdf; Height: 0.5mm; Length: 1mm; Mounting Technology: SMT; Operating Temperature max.: 125C; Operating Temperature min.: -55C; Packaging: Tape and Reel; Rated Voltage: 25V; Size: 0402; Width: 0.5mm
footprint WCAP-CSGP_0402_L1W0.5H0.5
pins: 1, 2

## 885012005046
designator C?, comment 100pF, 25V
WCAP-CSGP Multilayer Ceramic Chip Capacitor, General Purpose, size 0402, NP0, 100pF, 25V; Manufacturer: Wurth Elektronik; Manufacturer Part Number: 885012005046; Capacitance Tolerance: +/-5%; Isolation Resistance: 10GOhm; Q-Factor: 1000; Technical Reference: NP00402101J025DFCT10000; Capacitance: 100pF; Ceramic Type: NP0; ComponentLink1Description: Manufacturer Link; ComponentLink1URL: http://www.we-online.de; ComponentLink2Description: Datasheet; ComponentLink2URL: https://www.we-online.com/catalog/datasheet/885012005046.pdf; Height: 0.5mm; Length: 1mm; Mounting Technology: SMT; Operating Temperature max.: 125C; Operating Temperature min.: -55C; Packaging: Tape and Reel; Rated Voltage: 25V; Size: 0402; Width: 0.5mm
footprint WCAP-CSGP_0402_L1W0.5H0.5
pins: 1, 2

## 885012005047
designator C?, comment 150pF, 25V
WCAP-CSGP Multilayer Ceramic Chip Capacitor, General Purpose, size 0402, NP0, 150pF, 25V; Manufacturer: Wurth Elektronik; Manufacturer Part Number: 885012005047; Capacitance Tolerance: +/-5%; Isolation Resistance: 10GOhm; Q-Factor: 1000; Technical Reference: NP00402151J025DFCT10000; Capacitance: 150pF; Ceramic Type: NP0; ComponentLink1Description: Manufacturer Link; ComponentLink1URL: http://www.we-online.de; ComponentLink2Description: Datasheet; ComponentLink2URL: https://www.we-online.com/catalog/datasheet/885012005047.pdf; Height: 0.5mm; Length: 1mm; Mounting Technology: SMT; Operating Temperature max.: 125C; Operating Temperature min.: -55C; Packaging: Tape and Reel; Rated Voltage: 25V; Size: 0402; Width: 0.5mm
footprint WCAP-CSGP_0402_L1W0.5H0.5
pins: 1, 2

## 885012005048
designator C?, comment 220pF, 25V
WCAP-CSGP Multilayer Ceramic Chip Capacitor, General Purpose, size 0402, NP0, 220pF, 25V; Manufacturer: Wurth Elektronik; Manufacturer Part Number: 885012005048; Capacitance Tolerance: +/-5%; Isolation Resistance: 10GOhm; Q-Factor: 1000; Technical Reference: NP00402221J025DFCT10000; Capacitance: 220pF; Ceramic Type: NP0; ComponentLink1Description: Manufacturer Link; ComponentLink1URL: http://www.we-online.de; ComponentLink2Description: Datasheet; ComponentLink2URL: https://www.we-online.com/catalog/datasheet/885012005048.pdf; Height: 0.5mm; Length: 1mm; Mounting Technology: SMT; Operating Temperature max.: 125C; Operating Temperature min.: -55C; Packaging: Tape and Reel; Rated Voltage: 25V; Size: 0402; Width: 0.5mm
footprint WCAP-CSGP_0402_L1W0.5H0.5
pins: 1, 2

## 885012005049
designator C?, comment 1pF, 50V
WCAP-CSGP Multilayer Ceramic Chip Capacitor, General Purpose, size 0402, NP0, 1pF, 50V; Manufacturer: Wurth Elektronik; Manufacturer Part Number: 885012005049; Capacitance Tolerance: +/-0.5pF; Isolation Resistance: 10GOhm; Q-Factor: 420; Technical Reference: NP004021R0D050DFCT10000; Capacitance: 1pF; Ceramic Type: NP0; ComponentLink1Description: Manufacturer Link; ComponentLink1URL: http://www.we-online.de; ComponentLink2Description: Datasheet; ComponentLink2URL: https://www.we-online.com/catalog/datasheet/885012005049.pdf; Height: 0.5mm; Length: 1mm; Mounting Technology: SMT; Operating Temperature max.: 125C; Operating Temperature min.: -55C; Packaging: Tape and Reel; Rated Voltage: 50V; Size: 0402; Width: 0.5mm
footprint WCAP-CSGP_0402_L1W0.5H0.5
pins: 1, 2

## 885012005050
designator C?, comment 1.5pF, 50V
WCAP-CSGP Multilayer Ceramic Chip Capacitor, General Purpose, size 0402, NP0, 1.5pF, 50V; Manufacturer: Wurth Elektronik; Manufacturer Part Number: 885012005050; Capacitance Tolerance: +/-0.5pF; Isolation Resistance: 10GOhm; Q-Factor: 430; Technical Reference: NP004021R5D050DFCT10000; Capacitance: 1.5pF; Ceramic Type: NP0; ComponentLink1Description: Manufacturer Link; ComponentLink1URL: http://www.we-online.de; ComponentLink2Description: Datasheet; ComponentLink2URL: https://www.we-online.com/catalog/datasheet/885012005050.pdf; Height: 0.5mm; Length: 1mm; Mounting Technology: SMT; Operating Temperature max.: 125C; Operating Temperature min.: -55C; Packaging: Tape and Reel; Rated Voltage: 50V; Size: 0402; Width: 0.5mm
footprint WCAP-CSGP_0402_L1W0.5H0.5
pins: 1, 2

## 885012005051
designator C?, comment 2.2pF, 50V
WCAP-CSGP Multilayer Ceramic Chip Capacitor, General Purpose, size 0402, NP0, 2.2pF, 50V; Manufacturer: Wurth Elektronik; Manufacturer Part Number: 885012005051; Capacitance Tolerance: +/-0.5pF; Isolation Resistance: 10GOhm; Q-Factor: 444; Technical Reference: NP004022R2D050DFCT10000; Capacitance: 2.2pF; Ceramic Type: NP0; ComponentLink1Description: Manufacturer Link; ComponentLink1URL: http://www.we-online.de; ComponentLink2Description: Datasheet; ComponentLink2URL: https://www.we-online.com/catalog/datasheet/885012005051.pdf; Height: 0.5mm; Length: 1mm; Mounting Technology: SMT; Operating Temperature max.: 125C; Operating Temperature min.: -55C; Packaging: Tape and Reel; Rated Voltage: 50V; Size: 0402; Width: 0.5mm
footprint WCAP-CSGP_0402_L1W0.5H0.5
pins: 1, 2

## 885012005052
designator C?, comment 3.3pF, 50V
WCAP-CSGP Multilayer Ceramic Chip Capacitor, General Purpose, size 0402, NP0, 3.3pF, 50V; Manufacturer: Wurth Elektronik; Manufacturer Part Number: 885012005052; Capacitance Tolerance: +/-0.5pF; Isolation Resistance: 10GOhm; Q-Factor: 466; Technical Reference: NP004023R3D050DFCT10000; Capacitance: 3.3pF; Ceramic Type: NP0; ComponentLink1Description: Manufacturer Link; ComponentLink1URL: http://www.we-online.de; ComponentLink2Description: Datasheet; ComponentLink2URL: https://www.we-online.com/catalog/datasheet/885012005052.pdf; Height: 0.5mm; Length: 1mm; Mounting Technology: SMT; Operating Temperature max.: 125C; Operating Temperature min.: -55C; Packaging: Tape and Reel; Rated Voltage: 50V; Size: 0402; Width: 0.5mm
footprint WCAP-CSGP_0402_L1W0.5H0.5
pins: 1, 2

## 885012005053
designator C?, comment 4.7pF, 50V
WCAP-CSGP Multilayer Ceramic Chip Capacitor, General Purpose, size 0402, NP0, 4.7pF, 50V; Manufacturer: Wurth Elektronik; Manufacturer Part Number: 885012005053; Capacitance Tolerance: +/-0.5pF; Isolation Resistance: 10GOhm; Q-Factor: 494; Technical Reference: NP004024R7D050DFCT10000; Capacitance: 4.7pF; Ceramic Type: NP0; ComponentLink1Description: Manufacturer Link; ComponentLink1URL: http://www.we-online.de; ComponentLink2Description: Datasheet; ComponentLink2URL: https://www.we-online.com/catalog/datasheet/885012005053.pdf; Height: 0.5mm; Length: 1mm; Mounting Technology: SMT; Operating Temperature max.: 125C; Operating Temperature min.: -55C; Packaging: Tape and Reel; Rated Voltage: 50V; Size: 0402; Width: 0.5mm
footprint WCAP-CSGP_0402_L1W0.5H0.5
pins: 1, 2

## 885012005054
designator C?, comment 6.8pF, 50V
WCAP-CSGP Multilayer Ceramic Chip Capacitor, General Purpose, size 0402, NP0, 6.8pF, 50V; Manufacturer: Wurth Elektronik; Manufacturer Part Number: 885012005054; Capacitance Tolerance: +/-0.5pF; Isolation Resistance: 10GOhm; Q-Factor: 536; Technical Reference: NP004026R8D050DFCT10000; Capacitance: 6.8pF; Ceramic Type: NP0; ComponentLink1Description: Manufacturer Link; ComponentLink1URL: http://www.we-online.de; ComponentLink2Description: Datasheet; ComponentLink2URL: https://www.we-online.com/catalog/datasheet/885012005054.pdf; Height: 0.5mm; Length: 1mm; Mounting Technology: SMT; Operating Temperature max.: 125C; Operating Temperature min.: -55C; Packaging: Tape and Reel; Rated Voltage: 50V; Size: 0402; Width: 0.5mm
footprint WCAP-CSGP_0402_L1W0.5H0.5
pins: 1, 2

## 885012005055
designator C?, comment 10pF, 50V
WCAP-CSGP Multilayer Ceramic Chip Capacitor, General Purpose, size 0402, NP0, 10pF, 50V; Manufacturer: Wurth Elektronik; Manufacturer Part Number: 885012005055; Capacitance Tolerance: +/-5%; Isolation Resistance: 10GOhm; Q-Factor: 600; Technical Reference: NP00402100J050DFCT10000; Capacitance: 10pF; Ceramic Type: NP0; ComponentLink1Description: Manufacturer Link; ComponentLink1URL: http://www.we-online.de; ComponentLink2Description: Datasheet; ComponentLink2URL: https://www.we-online.com/catalog/datasheet/885012005055.pdf; Height: 0.5mm; Length: 1mm; Mounting Technology: SMT; Operating Temperature max.: 125C; Operating Temperature min.: -55C; Packaging: Tape and Reel; Rated Voltage: 50V; Size: 0402; Width: 0.5mm
footprint WCAP-CSGP_0402_L1W0.5H0.5
pins: 1, 2

## 885012005056
designator C?, comment 15pF, 50V
WCAP-CSGP Multilayer Ceramic Chip Capacitor, General Purpose, size 0402, NP0, 15pF, 50V; Manufacturer: Wurth Elektronik; Manufacturer Part Number: 885012005056; Capacitance Tolerance: +/-5%; Isolation Resistance: 10GOhm; Q-Factor: 700; Technical Reference: NP00402150J050DFCT10000; Capacitance: 15pF; Ceramic Type: NP0; ComponentLink1Description: Manufacturer Link; ComponentLink1URL: http://www.we-online.de; ComponentLink2Description: Datasheet; ComponentLink2URL: https://www.we-online.com/catalog/datasheet/885012005056.pdf; Height: 0.5mm; Length: 1mm; Mounting Technology: SMT; Operating Temperature max.: 125C; Operating Temperature min.: -55C; Packaging: Tape and Reel; Rated Voltage: 50V; Size: 0402; Width: 0.5mm
footprint WCAP-CSGP_0402_L1W0.5H0.5
pins: 1, 2

## 885012005057
designator C?, comment 22pF, 50V
WCAP-CSGP Multilayer Ceramic Chip Capacitor, General Purpose, size 0402, NP0, 22pF, 50V; Manufacturer: Wurth Elektronik; Manufacturer Part Number: 885012005057; Capacitance Tolerance: +/-5%; Isolation Resistance: 10GOhm; Q-Factor: 840; Technical Reference: NP00402220J050DFCT10000; Capacitance: 22pF; Ceramic Type: NP0; ComponentLink1Description: Manufacturer Link; ComponentLink1URL: http://www.we-online.de; ComponentLink2Description: Datasheet; ComponentLink2URL: https://www.we-online.com/catalog/datasheet/885012005057.pdf; Height: 0.5mm; Length: 1mm; Mounting Technology: SMT; Operating Temperature max.: 125C; Operating Temperature min.: -55C; Packaging: Tape and Reel; Rated Voltage: 50V; Size: 0402; Width: 0.5mm
footprint WCAP-CSGP_0402_L1W0.5H0.5
pins: 1, 2

## 885012005058
designator C?, comment 33pF, 50V
WCAP-CSGP Multilayer Ceramic Chip Capacitor, General Purpose, size 0402, NP0, 33pF, 50V; Manufacturer: Wurth Elektronik; Manufacturer Part Number: 885012005058; Capacitance Tolerance: +/-5%; Isolation Resistance: 10GOhm; Q-Factor: 1000; Technical Reference: NP00402330J050DFCT10000; Capacitance: 33pF; Ceramic Type: NP0; ComponentLink1Description: Manufacturer Link; ComponentLink1URL: http://www.we-online.de; ComponentLink2Description: Datasheet; ComponentLink2URL: https://www.we-online.com/catalog/datasheet/885012005058.pdf; Height: 0.5mm; Length: 1mm; Mounting Technology: SMT; Operating Temperature max.: 125C; Operating Temperature min.: -55C; Packaging: Tape and Reel; Rated Voltage: 50V; Size: 0402; Width: 0.5mm
footprint WCAP-CSGP_0402_L1W0.5H0.5
pins: 1, 2

## 885012005059
designator C?, comment 47pF, 50V
WCAP-CSGP Multilayer Ceramic Chip Capacitor, General Purpose, size 0402, NP0, 47pF, 50V; Manufacturer: Wurth Elektronik; Manufacturer Part Number: 885012005059; Capacitance Tolerance: +/-5%; Isolation Resistance: 10GOhm; Q-Factor: 1000; Technical Reference: NP00402470J050DFCT10000; Capacitance: 47pF; Ceramic Type: NP0; ComponentLink1Description: Manufacturer Link; ComponentLink1URL: http://www.we-online.de; ComponentLink2Description: Datasheet; ComponentLink2URL: https://www.we-online.com/catalog/datasheet/885012005059.pdf; Height: 0.5mm; Length: 1mm; Mounting Technology: SMT; Operating Temperature max.: 125C; Operating Temperature min.: -55C; Packaging: Tape and Reel; Rated Voltage: 50V; Size: 0402; Width: 0.5mm
footprint WCAP-CSGP_0402_L1W0.5H0.5
pins: 1, 2

## 885012005060
designator C?, comment 68pF, 50V
WCAP-CSGP Multilayer Ceramic Chip Capacitor, General Purpose, size 0402, NP0, 68pF, 50V; Manufacturer: Wurth Elektronik; Manufacturer Part Number: 885012005060; Capacitance Tolerance: +/-5%; Isolation Resistance: 10GOhm; Q-Factor: 1000; Technical Reference: NP00402680J050DFCT10000; Capacitance: 68pF; Ceramic Type: NP0; ComponentLink1Description: Manufacturer Link; ComponentLink1URL: http://www.we-online.de; ComponentLink2Description: Datasheet; ComponentLink2URL: https://www.we-online.com/catalog/datasheet/885012005060.pdf; Height: 0.5mm; Length: 1mm; Mounting Technology: SMT; Operating Temperature max.: 125C; Operating Temperature min.: -55C; Packaging: Tape and Reel; Rated Voltage: 50V; Size: 0402; Width: 0.5mm
footprint WCAP-CSGP_0402_L1W0.5H0.5
pins: 1, 2